# Altium footprint library NG6011.PcbLib: 20 footprints (part 2 of 2)
Each footprint in its own frame and in the unit in brackets; x right, y up, seen from the top. Pads: shape width x height; smd on the part's side, far side on the other; paste and mask are expansions set on the pad; w line width, h text height; cw(c..) or ccw(c..) is an arc to the next point about the centre after c.
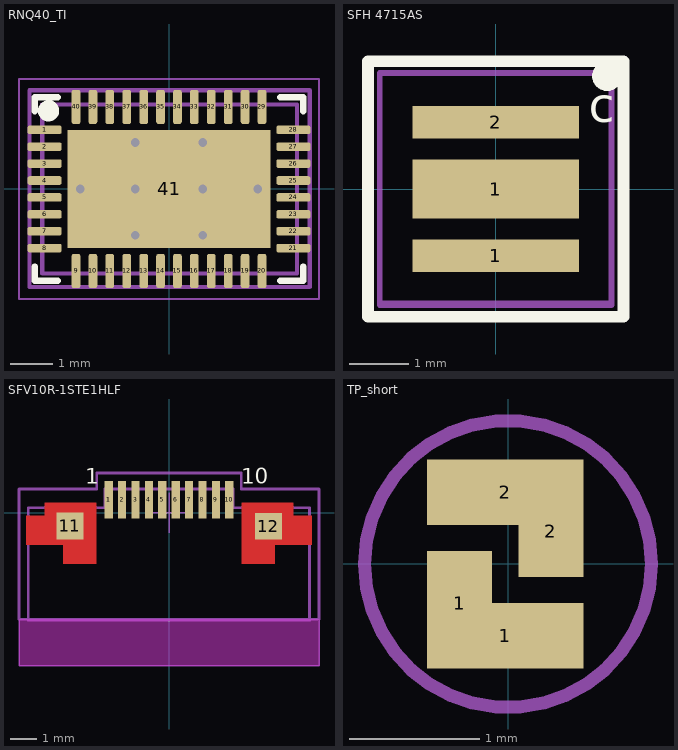
[diagram p1: the footprints below, top view; thin cyan lines are the x and y axes]

## RNQ40_TI [mm]
pads (41):
  rrect50% 0.808x0.204 smd mask+0.05: 1(-2.944,1.4) 2(-2.944,1) 3(-2.944,0.6) 4(-2.944,0.2) 5(-2.944,-0.2) 6(-2.944,-0.6) 7(-2.944,-1) 8(-2.944,-1.4) 21(2.944,-1.4) 22(2.944,-1) 23(2.944,-0.6) 24(2.944,-0.2) 25(2.944,0.2) 26(2.944,0.6) 27(2.944,1) 28(2.944,1.4)
  rrect50% 0.204x0.808 smd mask+0.05: 9(-2.2,-1.941) 10(-1.8,-1.941) 11(-1.4,-1.941) 12(-1,-1.941) 13(-0.6,-1.941) 14(-0.2,-1.941) 15(0.2,-1.941) 16(0.6,-1.941) 17(1,-1.941) 18(1.4,-1.941) 19(1.8,-1.941) 20(2.2,-1.941) 29(2.2,1.941) 30(1.8,1.941) 31(1.4,1.941) 32(1,1.941) 33(0.6,1.941) 34(0.2,1.941) 35(-0.2,1.941) 36(-0.6,1.941) 37(-1,1.941) 38(-1.4,1.941) 39(-1.8,1.941) 40(-2.2,1.941)
  rect 4.801x2.794 smd paste-2.388 mask+0: 41(0,0)
via -0.8,-1.1 diameter 0.406 hole 0.203
via 0.8,-1.1 diameter 0.406 hole 0.203
via 0.8,1.1 diameter 0.406 hole 0.203
via -0.8,1.1 diameter 0.406 hole 0.203
via -2.1,0 diameter 0.406 hole 0.203
via 2.1,0 diameter 0.406 hole 0.203
via -0.8,0 diameter 0.406 hole 0.203
via 0.8,0 diameter 0.406 hole 0.203
Top Overlay:
  circle w0.25: c-2.85,1.85 r0.125
  lines w0.152: -3.175,-1.835 -3.175,-2.172 -2.635,-2.172 ; -3.175,1.835 -3.175,2.172 -2.635,2.172 ; 2.635,-2.172 3.175,-2.172 3.175,-1.835 ; 2.635,2.172 3.175,2.172 3.175,1.835
Top Paste:
  region: -0.9,1.297 -2.3,1.297 -2.3,0.1 -0.9,0.1
  region: -0.9,-0.1 -2.3,-0.1 -2.3,-1.297 -0.9,-1.297
  region: 0.7,1.297 -0.7,1.297 -0.7,0.1 0.7,0.1
  region: 0.7,-0.1 -0.7,-0.1 -0.7,-1.297 0.7,-1.297
  region: 2.3,1.297 0.9,1.297 0.9,0.1 2.3,0.1
  region: 2.3,-0.1 0.9,-0.1 0.9,-1.297 2.3,-1.297
Top Assembly:
  lines w0.1: -3.3,-2.323 3.332,-2.323 3.332,2.335 -3.3,2.335 -3.3,-2.323
  text "'.Designator'" at 0,0.187 h1
Top Component Outline:
  lines w0.1: -3,-2.003 3.028,-2.003 3.028,1.998 -3,1.998 -3,-2.003
Top Courtyard:
  lines w0.05: -3.55,-2.6 3.55,-2.6 3.55,2.599 -3.55,2.599 -3.55,-2.6
  lines w0.1: -0.5,0 0.5,0 ; 0,-0.5 0,0.5
3D body "RNQ0040A.stp": height 0.8, standoff 0, extent -3,-2 3,2

## SFH 4715AS [mm] "OSLON Black Series (850 nm) - 80°"
pads (3):
  rect 2.8x0.55 smd: 1(0,-1.125) 2(0,1.125)
  rect 2.8x1 smd paste-1: 1(0,0)
Top Overlay:
  circle w0.25: c1.875,1.9 r0.125
  lines w0.2: -2.15,-2.15 2.15,-2.15 2.15,2.15 -2.15,2.15 -2.15,-2.15
  text "c" at 1.567,0.934 h1
Top Paste:
  region: 1.35,0.45 1.35,-0.45 0.15,-0.45 0.15,0.45
  region: -1.35,0.45 -1.35,-0.45 -0.15,-0.45 -0.15,0.45
Top Assembly:
  lines w0.1: -1.95,-1.95 -1.95,1.95 1.95,1.95 1.95,-1.95 -1.95,-1.95
  text "'.Designator'" at 0,0.187 h1
Top Component Outline:
  lines w0.1: -1.95,-1.928 -1.95,1.95 1.95,1.95 1.95,-1.928 -1.95,-1.928
Top Courtyard:
  lines w0.05: -2.1,-2.1 -2.1,2.1 2.1,2.1 2.1,-2.1 -2.1,-2.1
3D body "SFH_4715AS_110615_geometry.STEP": height 2.4, standoff 0, extent -1.925,-1.925 1.925,1.925

## SFV10R-1STE1HLF [mm] "CONN FFC BOTTOM 10POS 0.50MM R/A"
height 2
pads (13):
  rect 0.305x1.405 smd: 1(-2.258,0.494) 1(-2.258,0.494) 2(-1.759,0.494) 3(-1.258,0.494) 4(-0.758,0.494) 5(-0.258,0.494) 6(0.242,0.494) 7(0.741,0.494) 8(1.242,0.494) 9(1.742,0.494) 10(2.242,0.494)
  rect 1x1 smd: 11(-3.707,-0.486) 12(3.708,-0.494)
Top Layer:
  region: 3.942,0.395 2.692,0.395 2.692,-1.905 3.942,-1.905
  region: 5.342,-0.105 2.692,-0.105 2.692,-1.205 5.342,-1.205
  region: 4.642,0.395 2.692,0.395 2.692,-1.205 4.642,-1.205
  rectangle: -4.658,-1.205 -2.708,0.395
  rectangle: -5.358,-1.205 -2.708,-0.105
  rectangle: -3.958,-1.906 -2.708,0.395
Top Overlay:
  text "10" at 2.694,0.892 h1
  text "1" at -3.137,0.892 h1
Top Paste:
  region: 5.342,-0.105 2.692,-0.105 2.692,-1.205 5.342,-1.205
  region: 4.642,0.395 2.692,0.395 2.692,-1.205 4.642,-1.205
  region: 3.942,0.395 2.692,0.395 2.692,-1.905 3.942,-1.905
  rectangle: -5.358,-1.205 -2.708,-0.105
  rectangle: -4.658,-1.205 -2.708,0.395
  rectangle: -3.958,-1.906 -2.708,0.395
Keep-Out Layer:
  region: 5.594,-5.708 5.594,-3.973 -5.611,-3.973 -5.611,-5.708
Top Assembly:
  lines w0.1: -5.611,-3.973 -5.611,0.892 -2.711,0.892 -2.711,1.492 2.694,1.492 2.694,0.892 5.594,0.892 5.594,-3.973 -5.611,-3.973
  text "'.Designator'" at 0,0 h1
Top Component Outline:
  lines w0.1: 5.239,0.192 5.239,-4.008 -5.261,-4.008 -5.261,0.192 -2.411,0.192 -2.411,0.892 2.394,0.892 2.394,0.192 5.244,0.192
Top Courtyard:
  lines w0.05: -0.75,0 0,0 ; 0,-0.75 0,0 ; 0,0.75 0,0 ; 0.75,0 0,0 ; -5.611,-5.708 -5.611,0.892 -5.261,0.892 -2.711,0.892 -2.711,1.492 2.694,1.492 2.694,0.892 5.244,0.892 5.594,0.892 5.594,-5.708 -5.611,-5.708
Assembly Notes:
  text "Bottom contact ffc" at -2.756,-3.708 h1
3D body "ssfv10r_1stlf.stp": height 1.85, standoff -0.02, extent -5.261,-4.008 5.239,0.892

## TP_short [mm]
pads (4):
  rect 0.5x0.8 smd paste-2 mask+0.2: 1(-0.371,-0.3)
  rect 1.2x0.5 smd paste-2 mask+0.2: 1(-0.021,-0.55) 2(-0.021,0.55)
  rect 0.5x0.7 smd paste-2 mask+0.2: 2(0.329,0.25)
Top Assembly:
  circle w0.1: c0,0 r1.1
  text "'.Designator'" at 0,0 h0.75
Top Courtyard:
  circle w0.05: c0,0 r1.1